# Altium integrated library LibLoader.IntLib: 4 symbols
Pins are listed as number, name and electrical type; pins without a type are passive.

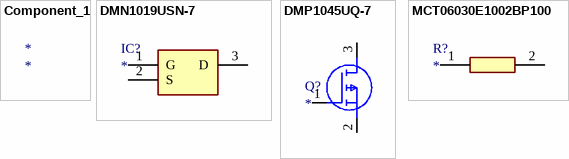
[diagram p0: symbols Component_1 to MCT06030E1002BP100]

## Component_1
designator *

## DMN1019USN-7
designator IC?
Integrated Circuit; Manufacturer_Name: Diodes Inc.; Manufacturer_Part_Number: DMN1019USN-7; Datasheet Link: https://componentsearchengine.com/Datasheets/1/DMN1019USN-7.pdf; Height: 1.3mm; Mouser Part Number: 621-DMN1019USN-7; Mouser Price/Stock: https://www.mouser.com/Search/Refine.aspx?Keyword=621-DMN1019USN-7
footprint SOT95P285X130-3N
pins: 1 G, 2 S, 3 D

## DMP1045UQ-7
designator Q?
MOSFET (P-Channel); Manufacturer_Name: Diodes Inc.; Manufacturer_Part_Number: DMP1045UQ-7; Datasheet Link: https://componentsearchengine.com/Datasheets/1/DMP1045UQ-7.pdf; Height: 1mm; Mouser Part Number: 621-DMP1045UQ-7; Mouser Price/Stock: https://www.mouser.com/Search/Refine.aspx?Keyword=621-DMP1045UQ-7
footprint SOT96P240X100-3N
pins: 1 G, 2 S, 3 D

## MCT06030E1002BP100
designator R?
Resistor; Manufacturer_Name: Vishay; Manufacturer_Part_Number: MCT06030E1002BP100; Datasheet Link: https://componentsearchengine.com/Datasheets/1/MCT06030E1002BP100.pdf; Height: 0.55mm; Mouser Part Number: 594-MCT06030E1002BP1; Mouser Price/Stock: https://www.mouser.com/Search/Refine.aspx?Keyword=594-MCT06030E1002BP1
footprint RESC1608X55N
pins: 1, 2